# EAGLE library part ADP7102ACPZ (library Analog Devices)
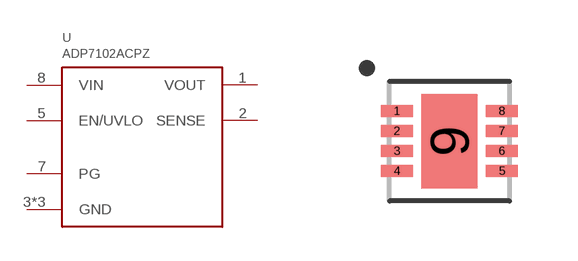
[diagram p60: symbol with the pads of LFCSP8_3X3; footprint LFCSP8_3X3]

Designator prefix U

## ADP7102ACPZ, ADP7102ACPZ-1.5, ADP7102ACPZ-1.8, ADP7102ACPZ-2.5, ADP7102ACPZ-3.0, ADP7102ACPZ-5.0, ADP7102ACPZ-9.0  [LFCSP8_3X3]
1  VOUT
2  SENSE
3  GND
5  EN/UVLO
6  GND
7  PG
8  VIN
9  GND

## Footprint LFCSP8_3X3 (pad centres in mm)
smd 0.8 x 0.3: 1 -1.315,0.75; 2 -1.315,0.25; 3 -1.315,-0.25; 4 -1.315,-0.75; 5 1.315,-0.75; 6 1.315,-0.25; 7 1.315,0.25; 8 1.315,0.75
smd 1.4 x 2.36: 9 0,0